# Altium footprint library LCMXO2-2000.PCBLIB: 1 footprints
Each footprint in its own frame and in the unit in brackets; x right, y up, seen from the top. Pads: shape width x height; smd on the part's side, far side on the other; paste and mask are expansions set on the pad; w line width, h text height; cw(c..) or ccw(c..) is an arc to the next point about the centre after c.
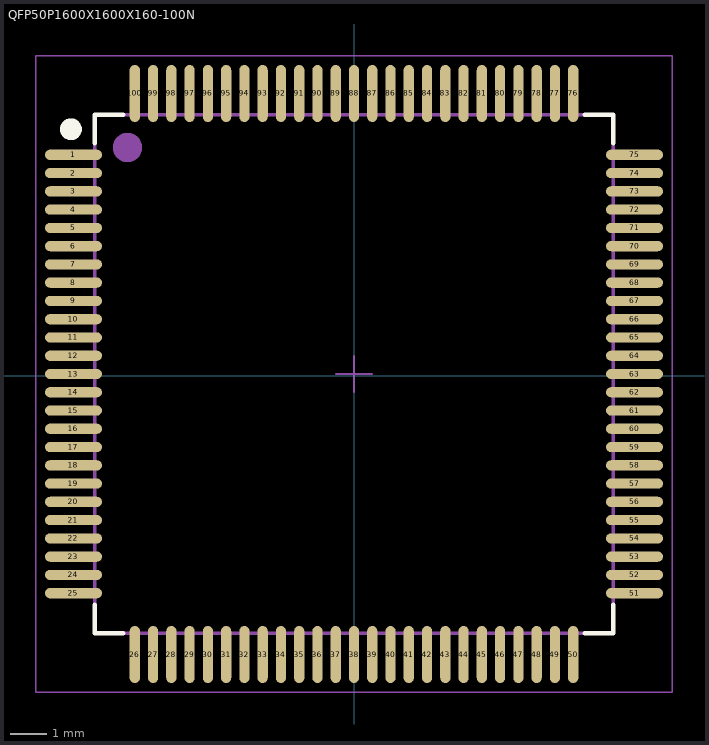
[diagram p0: the footprint, top view; thin cyan lines are the x and y axes]

## QFP50P1600X1600X160-100N [mm]
height 1.6
pads (100):
  oval 1.56x0.28 smd: 1(-7.68,6.05) 2(-7.68,5.55) 3(-7.68,5.05) 4(-7.68,4.55) 5(-7.68,4.05) 6(-7.68,3.55) 7(-7.68,3.05) 8(-7.68,2.55) 9(-7.68,2.05) 10(-7.68,1.55) 11(-7.68,1.05) 12(-7.68,0.55) 13(-7.68,0.05) 14(-7.68,-0.45) 15(-7.68,-0.95) 16(-7.68,-1.45) 17(-7.68,-1.95) 18(-7.68,-2.45) 19(-7.68,-2.95) 20(-7.68,-3.45) 21(-7.68,-3.95) 22(-7.68,-4.45) 23(-7.68,-4.95) 24(-7.68,-5.45) 25(-7.68,-5.95) 51(7.68,-5.95) 52(7.68,-5.45) 53(7.68,-4.95) 54(7.68,-4.45) 55(7.68,-3.95) 56(7.68,-3.45) 57(7.68,-2.95) 58(7.68,-2.45) 59(7.68,-1.95) 60(7.68,-1.45) 61(7.68,-0.95) 62(7.68,-0.45) 63(7.68,0.05) 64(7.68,0.55) 65(7.68,1.05) 66(7.68,1.55) 67(7.68,2.05) 68(7.68,2.55) 69(7.68,3.05) 70(7.68,3.55) 71(7.68,4.05) 72(7.68,4.55) 73(7.68,5.05) 74(7.68,5.55) 75(7.68,6.05)
  oval 0.28x1.56 smd: 26(-6,-7.63) 27(-5.5,-7.63) 28(-5,-7.63) 29(-4.5,-7.63) 30(-4,-7.63) 31(-3.5,-7.63) 32(-3,-7.63) 33(-2.5,-7.63) 34(-2,-7.63) 35(-1.5,-7.63) 36(-1,-7.63) 37(-0.5,-7.63) 38(0,-7.63) 39(0.5,-7.63) 40(1,-7.63) 41(1.5,-7.63) 42(2,-7.63) 43(2.5,-7.63) 44(3,-7.63) 45(3.5,-7.63) 46(4,-7.63) 47(4.5,-7.63) 48(5,-7.63) 49(5.5,-7.63) 50(6,-7.63) 76(6,7.73) 77(5.5,7.73) 78(5,7.73) 79(4.5,7.73) 80(4,7.73) 81(3.5,7.73) 82(3,7.73) 83(2.5,7.73) 84(2,7.73) 85(1.5,7.73) 86(1,7.73) 87(0.5,7.73) 88(0,7.73) 89(-0.5,7.73) 90(-1,7.73) 91(-1.5,7.73) 92(-2,7.73) 93(-2.5,7.73) 94(-3,7.73) 95(-3.5,7.73) 96(-4,7.73) 97(-4.5,7.73) 98(-5,7.73) 99(-5.5,7.73) 100(-6,7.73)
Top Overlay:
  circle w0.3: c-7.75,6.75 r0.15
  lines w0.12: -7.1,-6.27 -7.1,-7.05 -6.32,-7.05 ; -7.1,6.37 -7.1,7.15 -6.32,7.15 ; 6.32,-7.05 7.1,-7.05 7.1,-6.27 ; 6.32,7.15 7.1,7.15 7.1,6.37
Top Assembly:
  circle w0.4: c-6.2,6.25 r0.2
  lines w0.1: -7.1,-7.05 -7.1,7.15 7.1,7.15 7.1,-7.05 -7.1,-7.05
Top Courtyard:
  lines w0.05: -8.71,-8.66 8.71,-8.66 8.71,8.76 -8.71,8.76 -8.71,-8.66
Top Designator:
  text ".Designator" at -4.6,9.2 h1
Top Component Center:
  lines w0.05: -0.5,0.05 0.5,0.05 ; 0,-0.45 0,0.55
3D body "SW3dPS-LQFP100.STEP": height 1.6, standoff 0, extent -8,-8 8,8